# EAGLE library part RP2350B (library tecsmith_rpi)
Raspberry Pi RP2350B MCU
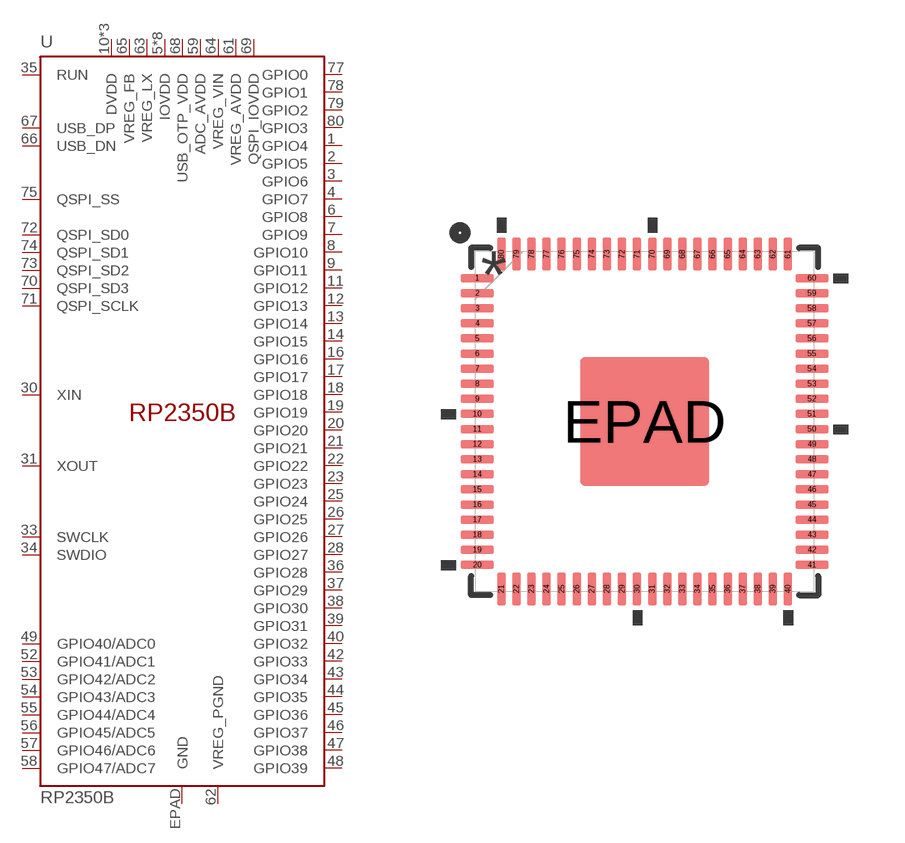
[diagram p1: symbol with the pads of QFN-80; footprint QFN-80]

Designator prefix -

## RP2350B  [QFN-80]
1  GPIO4
2  GPIO5
3  GPIO6
4  GPIO7
5  IOVDD
6  GPIO8
7  GPIO9
8  GPIO10
9  GPIO11
10  DVDD
11  GPIO12
12  GPIO13
13  GPIO14
14  GPIO15
15  IOVDD
16  GPIO16
17  GPIO17
18  GPIO18
19  GPIO19
20  GPIO20
21  GPIO21
22  GPIO22
23  GPIO23
24  IOVDD
25  GPIO24
26  GPIO25
27  GPIO26
28  GPIO27
29  IOVDD
30  XIN
31  XOUT
32  DVDD
33  SWCLK
34  SWDIO
35  RUN
36  GPIO28
37  GPIO29
38  GPIO30
39  GPIO31
40  GPIO32
41  IOVDD
42  GPIO33
43  GPIO34
44  GPIO35
45  GPIO36
46  GPIO37
47  GPIO38
48  GPIO39
49  GPIO40/ADC0
50  IOVDD
51  DVDD
52  GPIO41/ADC1
53  GPIO42/ADC2
54  GPIO43/ADC3
55  GPIO44/ADC4
56  GPIO45/ADC5
57  GPIO46/ADC6
58  GPIO47/ADC7
59  ADC_AVDD
60  IOVDD
61  VREG_AVDD
62  VREG_PGND
63  VREG_LX
64  VREG_VIN
65  VREG_FB
66  USB_DN
67  USB_DP
68  USB_OTP_VDD
69  QSPI_IOVDD
70  QSPI_SD3
71  QSPI_SCLK
72  QSPI_SD0
73  QSPI_SD2
74  QSPI_SD1
75  QSPI_SS
76  IOVDD
77  GPIO0
78  GPIO1
79  GPIO2
80  GPIO3
EPAD  GND

## Footprint QFN-80 (pad centres in mm)
smd 0.875 x 0.22: 1 -4.436,3.8; 2 -4.436,3.4; 3 -4.436,3; 4 -4.436,2.6; 5 -4.436,2.2; 6 -4.436,1.8; 7 -4.436,1.4; 8 -4.436,1; 9 -4.436,0.6; 10 -4.436,0.2; 11 -4.436,-0.2; 12 -4.436,-0.6; 13 -4.436,-1; 14 -4.436,-1.4; 15 -4.436,-1.8; 16 -4.436,-2.2; 17 -4.436,-2.6; 18 -4.436,-3; 19 -4.436,-3.4; 20 -4.436,-3.8; 41 4.436,-3.8; 42 4.436,-3.4; 43 4.436,-3; 44 4.436,-2.6; 45 4.436,-2.2; 46 4.436,-1.8; 47 4.436,-1.4; 48 4.436,-1; 49 4.436,-0.6; 50 4.436,-0.2; 51 4.436,0.2; 52 4.436,0.6; 53 4.436,1; 54 4.436,1.4; 55 4.436,1.8; 56 4.436,2.2; 57 4.436,2.6; 58 4.436,3; 59 4.436,3.4; 60 4.436,3.8
smd 0.22 x 0.875: 21 -3.8,-4.436; 22 -3.4,-4.436; 23 -3,-4.436; 24 -2.6,-4.436; 25 -2.2,-4.436; 26 -1.8,-4.436; 27 -1.4,-4.436; 28 -1,-4.436; 29 -0.6,-4.436; 30 -0.2,-4.436; 31 0.2,-4.436; 32 0.6,-4.436; 33 1,-4.436; 34 1.4,-4.436; 35 1.8,-4.436; 36 2.2,-4.436; 37 2.6,-4.436; 38 3,-4.436; 39 3.4,-4.436; 40 3.8,-4.436; 61 3.8,4.436; 62 3.4,4.436; 63 3,4.436; 64 2.6,4.436; 65 2.2,4.436; 66 1.8,4.436; 67 1.4,4.436; 68 1,4.436; 69 0.6,4.436; 70 0.2,4.436; 71 -0.2,4.436; 72 -0.6,4.436; 73 -1,4.436; 74 -1.4,4.436; 75 -1.8,4.436; 76 -2.2,4.436; 77 -2.6,4.436; 78 -3,4.436; 79 -3.4,4.436; 80 -3.8,4.436
smd 3.4 x 3.4: EPAD 0,0